# EAGLE library part ASP-134488-01 (library fmc-connector)
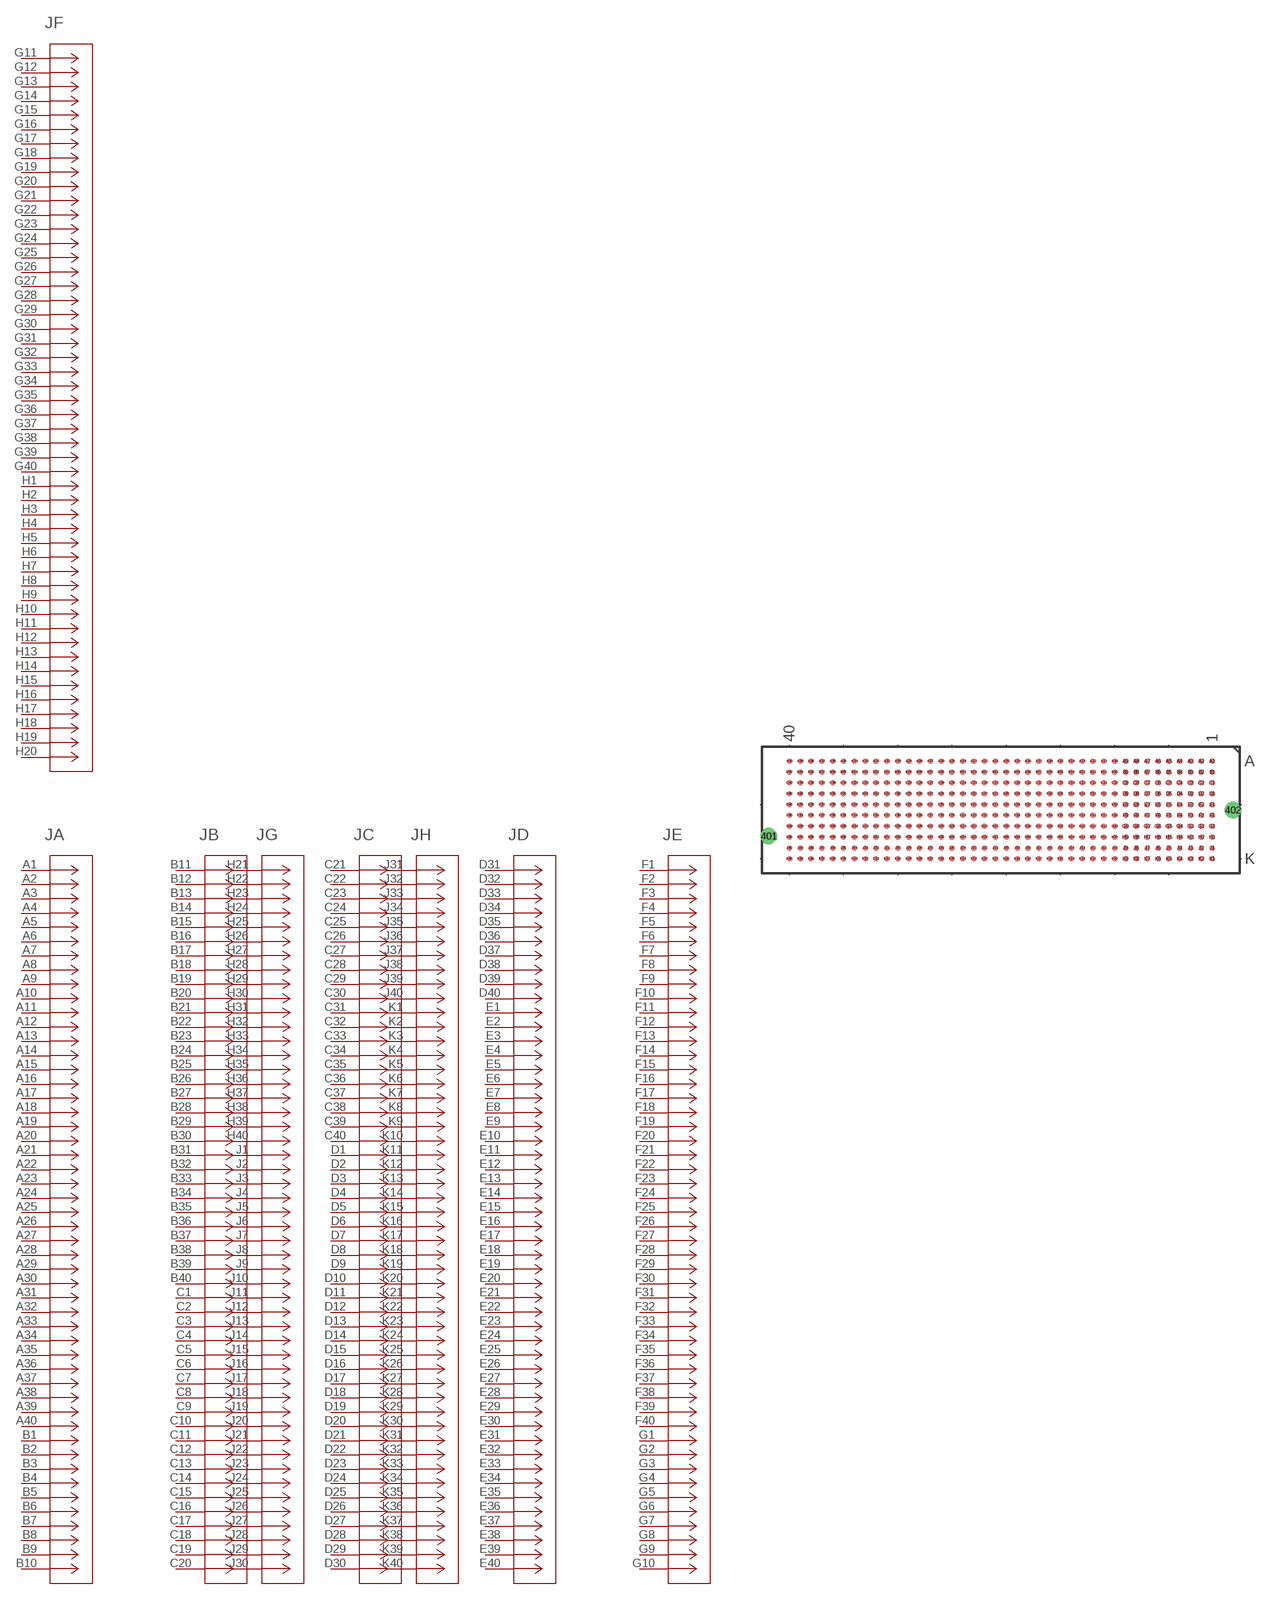
[diagram p0: symbol with the pads of CONN_ASP-134488-01_SAI; footprint CONN_ASP-134488-01_SAI]

Designator prefix J; gates A=CONN_ASP-134486-01 B=CONN_ASP-134486-01_4 C=CONN_ASP-134486-01_7 D=CONN_ASP-134486-01_10 E=CONN_ASP-134486-01_13 F=CONN_ASP-134486-01_16 G=CONN_ASP-134486-01_19 H=CONN_ASP-134486-01_22

## ASP-134488-01 (COPYRIGHT: Copyright (C) 2021 Ultra Librarian. All rights reserved.; MANUFACTURER_PART_NUMBER: ASP-134488-01; MFR_NAME: Samtec Inc)  [CONN_ASP-134488-01_SAI]
A1  A:A1  pas
A2  A:A2  pas
A3  A:A3  pas
A4  A:A4  pas
A5  A:A5  pas
A6  A:A6  pas
A7  A:A7  pas
A8  A:A8  pas
A9  A:A9  pas
A10  A:A10  pas
A11  A:A11  pas
A12  A:A12  pas
A13  A:A13  pas
A14  A:A14  pas
A15  A:A15  pas
A16  A:A16  pas
A17  A:A17  pas
A18  A:A18  pas
A19  A:A19  pas
A20  A:A20  pas
A21  A:A21  pas
A22  A:A22  pas
A23  A:A23  pas
A24  A:A24  pas
A25  A:A25  pas
A26  A:A26  pas
A27  A:A27  pas
A28  A:A28  pas
A29  A:A29  pas
A30  A:A30  pas
A31  A:A31  pas
A32  A:A32  pas
A33  A:A33  pas
A34  A:A34  pas
A35  A:A35  pas
A36  A:A36  pas
A37  A:A37  pas
A38  A:A38  pas
A39  A:A39  pas
A40  A:A40  pas
B1  A:B1  pas
B2  A:B2  pas
B3  A:B3  pas
B4  A:B4  pas
B5  A:B5  pas
B6  A:B6  pas
B7  A:B7  pas
B8  A:B8  pas
B9  A:B9  pas
B10  A:B10  pas
B11  B:B11  pas
B12  B:B12  pas
B13  B:B13  pas
B14  B:B14  pas
B15  B:B15  pas
B16  B:B16  pas
B17  B:B17  pas
B18  B:B18  pas
B19  B:B19  pas
B20  B:B20  pas
B21  B:B21  pas
B22  B:B22  pas
B23  B:B23  pas
B24  B:B24  pas
B25  B:B25  pas
B26  B:B26  pas
B27  B:B27  pas
B28  B:B28  pas
B29  B:B29  pas
B30  B:B30  pas
B31  B:B31  pas
B32  B:B32  pas
B33  B:B33  pas
B34  B:B34  pas
B35  B:B35  pas
B36  B:B36  pas
B37  B:B37  pas
B38  B:B38  pas
B39  B:B39  pas
B40  B:B40  pas
C1  B:C1  pas
C2  B:C2  pas
C3  B:C3  pas
C4  B:C4  pas
C5  B:C5  pas
C6  B:C6  pas
C7  B:C7  pas
C8  B:C8  pas
C9  B:C9  pas
C10  B:C10  pas
C11  B:C11  pas
C12  B:C12  pas
C13  B:C13  pas
C14  B:C14  pas
C15  B:C15  pas
C16  B:C16  pas
C17  B:C17  pas
C18  B:C18  pas
C19  B:C19  pas
C20  B:C20  pas
C21  C:C21  pas
C22  C:C22  pas
C23  C:C23  pas
C24  C:C24  pas
C25  C:C25  pas
C26  C:C26  pas
C27  C:C27  pas
C28  C:C28  pas
C29  C:C29  pas
C30  C:C30  pas
C31  C:C31  pas
C32  C:C32  pas
C33  C:C33  pas
C34  C:C34  pas
C35  C:C35  pas
C36  C:C36  pas
C37  C:C37  pas
C38  C:C38  pas
C39  C:C39  pas
C40  C:C40  pas
D1  C:D1  pas
D2  C:D2  pas
D3  C:D3  pas
D4  C:D4  pas
D5  C:D5  pas
D6  C:D6  pas
D7  C:D7  pas
D8  C:D8  pas
D9  C:D9  pas
D10  C:D10  pas
D11  C:D11  pas
D12  C:D12  pas
D13  C:D13  pas
D14  C:D14  pas
D15  C:D15  pas
D16  C:D16  pas
D17  C:D17  pas
D18  C:D18  pas
D19  C:D19  pas
D20  C:D20  pas
D21  C:D21  pas
D22  C:D22  pas
D23  C:D23  pas
D24  C:D24  pas
D25  C:D25  pas
D26  C:D26  pas
D27  C:D27  pas
D28  C:D28  pas
D29  C:D29  pas
D30  C:D30  pas
D31  D:D31  pas
D32  D:D32  pas
D33  D:D33  pas
D34  D:D34  pas
D35  D:D35  pas
D36  D:D36  pas
D37  D:D37  pas
D38  D:D38  pas
D39  D:D39  pas
D40  D:D40  pas
E1  D:E1  pas
E2  D:E2  pas
E3  D:E3  pas
E4  D:E4  pas
E5  D:E5  pas
E6  D:E6  pas
E7  D:E7  pas
E8  D:E8  pas
E9  D:E9  pas
E10  D:E10  pas
E11  D:E11  pas
E12  D:E12  pas
E13  D:E13  pas
E14  D:E14  pas
E15  D:E15  pas
E16  D:E16  pas
E17  D:E17  pas
E18  D:E18  pas
E19  D:E19  pas
E20  D:E20  pas
E21  D:E21  pas
E22  D:E22  pas
E23  D:E23  pas
E24  D:E24  pas
E25  D:E25  pas
E26  D:E26  pas
E27  D:E27  pas
E28  D:E28  pas
E29  D:E29  pas
E30  D:E30  pas
E31  D:E31  pas
E32  D:E32  pas
E33  D:E33  pas
E34  D:E34  pas
E35  D:E35  pas
E36  D:E36  pas
E37  D:E37  pas
E38  D:E38  pas
E39  D:E39  pas
E40  D:E40  pas
F1  E:F1  pas
F2  E:F2  pas
F3  E:F3  pas
F4  E:F4  pas
F5  E:F5  pas
F6  E:F6  pas
F7  E:F7  pas
F8  E:F8  pas
F9  E:F9  pas
F10  E:F10  pas
F11  E:F11  pas
F12  E:F12  pas
F13  E:F13  pas
F14  E:F14  pas
F15  E:F15  pas
F16  E:F16  pas
F17  E:F17  pas
F18  E:F18  pas
F19  E:F19  pas
F20  E:F20  pas
F21  E:F21  pas
F22  E:F22  pas
F23  E:F23  pas
F24  E:F24  pas
F25  E:F25  pas
F26  E:F26  pas
F27  E:F27  pas
F28  E:F28  pas
F29  E:F29  pas
F30  E:F30  pas
F31  E:F31  pas
F32  E:F32  pas
F33  E:F33  pas
F34  E:F34  pas
F35  E:F35  pas
F36  E:F36  pas
F37  E:F37  pas
F38  E:F38  pas
F39  E:F39  pas
F40  E:F40  pas
G1  E:G1  pas
G2  E:G2  pas
G3  E:G3  pas
G4  E:G4  pas
G5  E:G5  pas
G6  E:G6  pas
G7  E:G7  pas
G8  E:G8  pas
G9  E:G9  pas
G10  E:G10  pas
G11  F:G11  pas
G12  F:G12  pas
G13  F:G13  pas
G14  F:G14  pas
G15  F:G15  pas
G16  F:G16  pas
G17  F:G17  pas
G18  F:G18  pas
G19  F:G19  pas
G20  F:G20  pas
G21  F:G21  pas
G22  F:G22  pas
G23  F:G23  pas
G24  F:G24  pas
G25  F:G25  pas
G26  F:G26  pas
G27  F:G27  pas
G28  F:G28  pas
G29  F:G29  pas
G30  F:G30  pas
G31  F:G31  pas
G32  F:G32  pas
G33  F:G33  pas
G34  F:G34  pas
G35  F:G35  pas
G36  F:G36  pas
G37  F:G37  pas
G38  F:G38  pas
G39  F:G39  pas
G40  F:G40  pas
H1  F:H1  pas
H2  F:H2  pas
H3  F:H3  pas
H4  F:H4  pas
H5  F:H5  pas
H6  F:H6  pas
H7  F:H7  pas
H8  F:H8  pas
H9  F:H9  pas
H10  F:H10  pas
H11  F:H11  pas
H12  F:H12  pas
H13  F:H13  pas
H14  F:H14  pas
H15  F:H15  pas
H16  F:H16  pas
H17  F:H17  pas
H18  F:H18  pas
H19  F:H19  pas
H20  F:H20  pas
H21  G:H21  pas
H22  G:H22  pas
H23  G:H23  pas
H24  G:H24  pas
H25  G:H25  pas
H26  G:H26  pas
H27  G:H27  pas
H28  G:H28  pas
H29  G:H29  pas
H30  G:H30  pas
H31  G:H31  pas
H32  G:H32  pas
H33  G:H33  pas
H34  G:H34  pas
H35  G:H35  pas
H36  G:H36  pas
H37  G:H37  pas
H38  G:H38  pas
H39  G:H39  pas
H40  G:H40  pas
J1  G:J1  pas
J2  G:J2  pas
J3  G:J3  pas
J4  G:J4  pas
J5  G:J5  pas
J6  G:J6  pas
J7  G:J7  pas
J8  G:J8  pas
J9  G:J9  pas
J10  G:J10  pas
J11  G:J11  pas
J12  G:J12  pas
J13  G:J13  pas
J14  G:J14  pas
J15  G:J15  pas
J16  G:J16  pas
J17  G:J17  pas
J18  G:J18  pas
J19  G:J19  pas
J20  G:J20  pas
J21  G:J21  pas
J22  G:J22  pas
J23  G:J23  pas
J24  G:J24  pas
J25  G:J25  pas
J26  G:J26  pas
J27  G:J27  pas
J28  G:J28  pas
J29  G:J29  pas
J30  G:J30  pas
J31  H:J31  pas
J32  H:J32  pas
J33  H:J33  pas
J34  H:J34  pas
J35  H:J35  pas
J36  H:J36  pas
J37  H:J37  pas
J38  H:J38  pas
J39  H:J39  pas
J40  H:J40  pas
K1  H:K1  pas
K2  H:K2  pas
K3  H:K3  pas
K4  H:K4  pas
K5  H:K5  pas
K6  H:K6  pas
K7  H:K7  pas
K8  H:K8  pas
K9  H:K9  pas
K10  H:K10  pas
K11  H:K11  pas
K12  H:K12  pas
K13  H:K13  pas
K14  H:K14  pas
K15  H:K15  pas
K16  H:K16  pas
K17  H:K17  pas
K18  H:K18  pas
K19  H:K19  pas
K20  H:K20  pas
K21  H:K21  pas
K22  H:K22  pas
K23  H:K23  pas
K24  H:K24  pas
K25  H:K25  pas
K26  H:K26  pas
K27  H:K27  pas
K28  H:K28  pas
K29  H:K29  pas
K30  H:K30  pas
K31  H:K31  pas
K32  H:K32  pas
K33  H:K33  pas
K34  H:K34  pas
K35  H:K35  pas
K36  H:K36  pas
K37  H:K37  pas
K38  H:K38  pas
K39  H:K39  pas
K40  H:K40  pas

## Footprint CONN_ASP-134488-01_SAI (pad centres in mm)
drill 1.27 pad 1.27: 401 -27.178,-3.048; 402 27.178,0
smd 0.635 x 0.635: A1 24.765,5.715; A2 23.495,5.715; A3 22.225,5.715; A4 20.955,5.715; A5 19.685,5.715; A6 18.415,5.715; A7 17.145,5.715; A8 15.875,5.715; A9 14.605,5.715; A10 13.335,5.715; A11 12.065,5.715; A12 10.795,5.715; A13 9.525,5.715; A14 8.255,5.715; A15 6.985,5.715; A16 5.715,5.715; A17 4.445,5.715; A18 3.175,5.715; A19 1.905,5.715; A20 0.635,5.715; A21 -0.635,5.715; A22 -1.905,5.715; A23 -3.175,5.715; A24 -4.445,5.715; A25 -5.715,5.715; A26 -6.985,5.715; A27 -8.255,5.715; A28 -9.525,5.715; A29 -10.795,5.715; A30 -12.065,5.715; A31 -13.335,5.715; A32 -14.605,5.715; A33 -15.875,5.715; A34 -17.145,5.715; A35 -18.415,5.715; A36 -19.685,5.715; A37 -20.955,5.715; A38 -22.225,5.715; A39 -23.495,5.715; A40 -24.765,5.715; B1 24.765,4.445; B2 23.495,4.445; B3 22.225,4.445; B4 20.955,4.445; B5 19.685,4.445; B6 18.415,4.445; B7 17.145,4.445; B8 15.875,4.445; B9 14.605,4.445; B10 13.335,4.445; B11 12.065,4.445; B12 10.795,4.445; B13 9.525,4.445; B14 8.255,4.445; B15 6.985,4.445; B16 5.715,4.445; B17 4.445,4.445; B18 3.175,4.445; B19 1.905,4.445; B20 0.635,4.445; B21 -0.635,4.445; B22 -1.905,4.445; B23 -3.175,4.445; B24 -4.445,4.445; B25 -5.715,4.445; B26 -6.985,4.445; B27 -8.255,4.445; B28 -9.525,4.445; B29 -10.795,4.445; B30 -12.065,4.445; B31 -13.335,4.445; B32 -14.605,4.445; B33 -15.875,4.445; B34 -17.145,4.445; B35 -18.415,4.445; B36 -19.685,4.445; B37 -20.955,4.445; B38 -22.225,4.445; B39 -23.495,4.445; B40 -24.765,4.445; C1 24.765,3.175; C2 23.495,3.175; C3 22.225,3.175; C4 20.955,3.175; C5 19.685,3.175; C6 18.415,3.175; C7 17.145,3.175; C8 15.875,3.175; C9 14.605,3.175; C10 13.335,3.175; C11 12.065,3.175; C12 10.795,3.175; C13 9.525,3.175; C14 8.255,3.175; C15 6.985,3.175; C16 5.715,3.175; C17 4.445,3.175; C18 3.175,3.175; C19 1.905,3.175; C20 0.635,3.175; C21 -0.635,3.175; C22 -1.905,3.175; C23 -3.175,3.175; C24 -4.445,3.175; C25 -5.715,3.175; C26 -6.985,3.175; C27 -8.255,3.175; C28 -9.525,3.175; C29 -10.795,3.175; C30 -12.065,3.175; C31 -13.335,3.175; C32 -14.605,3.175; C33 -15.875,3.175; C34 -17.145,3.175; C35 -18.415,3.175; C36 -19.685,3.175; C37 -20.955,3.175; C38 -22.225,3.175; C39 -23.495,3.175; C40 -24.765,3.175; D1 24.765,1.905; D2 23.495,1.905; D3 22.225,1.905; D4 20.955,1.905; D5 19.685,1.905; D6 18.415,1.905; D7 17.145,1.905; D8 15.875,1.905; D9 14.605,1.905; D10 13.335,1.905; D11 12.065,1.905; D12 10.795,1.905; D13 9.525,1.905; D14 8.255,1.905; D15 6.985,1.905; D16 5.715,1.905; D17 4.445,1.905; D18 3.175,1.905; D19 1.905,1.905; D20 0.635,1.905; D21 -0.635,1.905; D22 -1.905,1.905; D23 -3.175,1.905; D24 -4.445,1.905; D25 -5.715,1.905; D26 -6.985,1.905; D27 -8.255,1.905; D28 -9.525,1.905; D29 -10.795,1.905; D30 -12.065,1.905; D31 -13.335,1.905; D32 -14.605,1.905; D33 -15.875,1.905; D34 -17.145,1.905; D35 -18.415,1.905; D36 -19.685,1.905; D37 -20.955,1.905; D38 -22.225,1.905; D39 -23.495,1.905; D40 -24.765,1.905; E1 24.765,0.635; E2 23.495,0.635; E3 22.225,0.635; E4 20.955,0.635; E5 19.685,0.635; E6 18.415,0.635; E7 17.145,0.635; E8 15.875,0.635; E9 14.605,0.635; E10 13.335,0.635; E11 12.065,0.635; E12 10.795,0.635; E13 9.525,0.635; E14 8.255,0.635; E15 6.985,0.635; E16 5.715,0.635; E17 4.445,0.635; E18 3.175,0.635; E19 1.905,0.635; E20 0.635,0.635; E21 -0.635,0.635; E22 -1.905,0.635; E23 -3.175,0.635; E24 -4.445,0.635; E25 -5.715,0.635; E26 -6.985,0.635; E27 -8.255,0.635; E28 -9.525,0.635; E29 -10.795,0.635; E30 -12.065,0.635; E31 -13.335,0.635; E32 -14.605,0.635; E33 -15.875,0.635; E34 -17.145,0.635; E35 -18.415,0.635; E36 -19.685,0.635; E37 -20.955,0.635; E38 -22.225,0.635; E39 -23.495,0.635; E40 -24.765,0.635; F1 24.765,-0.635; F2 23.495,-0.635; F3 22.225,-0.635; F4 20.955,-0.635; F5 19.685,-0.635; F6 18.415,-0.635; F7 17.145,-0.635; F8 15.875,-0.635; F9 14.605,-0.635; F10 13.335,-0.635; F11 12.065,-0.635; F12 10.795,-0.635; F13 9.525,-0.635; F14 8.255,-0.635; F15 6.985,-0.635; F16 5.715,-0.635; F17 4.445,-0.635; F18 3.175,-0.635; F19 1.905,-0.635; F20 0.635,-0.635; F21 -0.635,-0.635; F22 -1.905,-0.635; F23 -3.175,-0.635; F24 -4.445,-0.635; F25 -5.715,-0.635; F26 -6.985,-0.635; F27 -8.255,-0.635; F28 -9.525,-0.635; F29 -10.795,-0.635; F30 -12.065,-0.635; F31 -13.335,-0.635; F32 -14.605,-0.635; F33 -15.875,-0.635; F34 -17.145,-0.635; F35 -18.415,-0.635; F36 -19.685,-0.635; F37 -20.955,-0.635; F38 -22.225,-0.635; F39 -23.495,-0.635; F40 -24.765,-0.635; G1 24.765,-1.905; G2 23.495,-1.905; G3 22.225,-1.905; G4 20.955,-1.905; G5 19.685,-1.905; G6 18.415,-1.905; G7 17.145,-1.905; G8 15.875,-1.905; G9 14.605,-1.905; G10 13.335,-1.905; G11 12.065,-1.905; G12 10.795,-1.905; G13 9.525,-1.905; G14 8.255,-1.905; G15 6.985,-1.905; G16 5.715,-1.905; G17 4.445,-1.905; G18 3.175,-1.905; G19 1.905,-1.905; G20 0.635,-1.905; G21 -0.635,-1.905; G22 -1.905,-1.905; G23 -3.175,-1.905; G24 -4.445,-1.905; G25 -5.715,-1.905; G26 -6.985,-1.905; G27 -8.255,-1.905; G28 -9.525,-1.905; G29 -10.795,-1.905; G30 -12.065,-1.905; G31 -13.335,-1.905; G32 -14.605,-1.905; G33 -15.875,-1.905; G34 -17.145,-1.905; G35 -18.415,-1.905; G36 -19.685,-1.905; G37 -20.955,-1.905; G38 -22.225,-1.905; G39 -23.495,-1.905; G40 -24.765,-1.905; H1 24.765,-3.175; H2 23.495,-3.175; H3 22.225,-3.175; H4 20.955,-3.175; H5 19.685,-3.175; H6 18.415,-3.175; H7 17.145,-3.175; H8 15.875,-3.175; H9 14.605,-3.175; H10 13.335,-3.175; H11 12.065,-3.175; H12 10.795,-3.175; H13 9.525,-3.175; H14 8.255,-3.175; H15 6.985,-3.175; H16 5.715,-3.175; H17 4.445,-3.175; H18 3.175,-3.175; H19 1.905,-3.175; H20 0.635,-3.175; H21 -0.635,-3.175; H22 -1.905,-3.175; H23 -3.175,-3.175; H24 -4.445,-3.175; H25 -5.715,-3.175; H26 -6.985,-3.175; H27 -8.255,-3.175; H28 -9.525,-3.175; H29 -10.795,-3.175; H30 -12.065,-3.175; H31 -13.335,-3.175; H32 -14.605,-3.175; H33 -15.875,-3.175; H34 -17.145,-3.175; H35 -18.415,-3.175; H36 -19.685,-3.175; H37 -20.955,-3.175; H38 -22.225,-3.175; H39 -23.495,-3.175; H40 -24.765,-3.175; J1 24.765,-4.445; J2 23.495,-4.445; J3 22.225,-4.445; J4 20.955,-4.445; J5 19.685,-4.445; J6 18.415,-4.445; J7 17.145,-4.445; J8 15.875,-4.445; J9 14.605,-4.445; J10 13.335,-4.445; J11 12.065,-4.445; J12 10.795,-4.445; J13 9.525,-4.445; J14 8.255,-4.445; J15 6.985,-4.445; J16 5.715,-4.445; J17 4.445,-4.445; J18 3.175,-4.445; J19 1.905,-4.445; J20 0.635,-4.445; J21 -0.635,-4.445; J22 -1.905,-4.445; J23 -3.175,-4.445; J24 -4.445,-4.445; J25 -5.715,-4.445; J26 -6.985,-4.445; J27 -8.255,-4.445; J28 -9.525,-4.445; J29 -10.795,-4.445; J30 -12.065,-4.445; J31 -13.335,-4.445; J32 -14.605,-4.445; J33 -15.875,-4.445; J34 -17.145,-4.445; J35 -18.415,-4.445; J36 -19.685,-4.445; J37 -20.955,-4.445; J38 -22.225,-4.445; J39 -23.495,-4.445; J40 -24.765,-4.445; K1 24.765,-5.715; K2 23.495,-5.715; K3 22.225,-5.715; K4 20.955,-5.715; K5 19.685,-5.715; K6 18.415,-5.715; K7 17.145,-5.715; K8 15.875,-5.715; K9 14.605,-5.715; K10 13.335,-5.715; K11 12.065,-5.715; K12 10.795,-5.715; K13 9.525,-5.715; K14 8.255,-5.715; K15 6.985,-5.715; K16 5.715,-5.715; K17 4.445,-5.715; K18 3.175,-5.715; K19 1.905,-5.715; K20 0.635,-5.715; K21 -0.635,-5.715; K22 -1.905,-5.715; K23 -3.175,-5.715; K24 -4.445,-5.715; K25 -5.715,-5.715; K26 -6.985,-5.715; K27 -8.255,-5.715; K28 -9.525,-5.715; K29 -10.795,-5.715; K30 -12.065,-5.715; K31 -13.335,-5.715; K32 -14.605,-5.715; K33 -15.875,-5.715; K34 -17.145,-5.715; K35 -18.415,-5.715; K36 -19.685,-5.715; K37 -20.955,-5.715; K38 -22.225,-5.715; K39 -23.495,-5.715; K40 -24.765,-5.715